# EAGLE library part MAX31855KASA+T (library MAX31855KASA+T-DK)
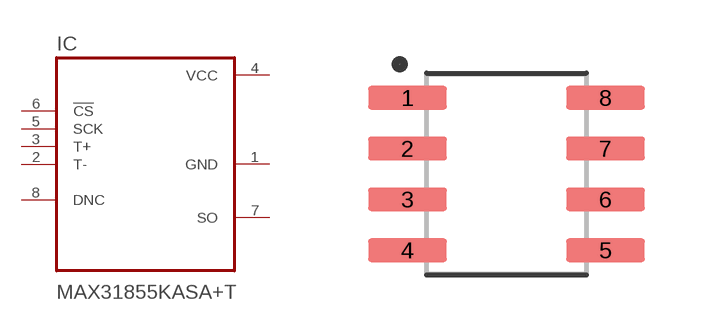
[diagram p0: symbol with the pads of SOIC127P600X175-8N; footprint SOIC127P600X175-8N]

Designator prefix IC

## MAX31855KASA+T  [SOIC127P600X175-8N]
1  GND  pas
2  T-  pas
3  T+  pas
4  VCC  pwr
5  SCK  in
6  !CS  in
7  SO  out
8  DNC  pas

## Footprint SOIC127P600X175-8N (pad centres in mm)
smd 1.97 x 0.59: 1 -2.475,1.905; 2 -2.475,0.635; 3 -2.475,-0.635; 4 -2.475,-1.905; 5 2.475,-1.905; 6 2.475,-0.635; 7 2.475,0.635; 8 2.475,1.905